# Altium schematic symbol library CL10A106MP8NNNC.SchLib: 1 symbol
Pins are listed as number, name and electrical type; pins without a type are passive.

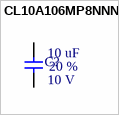
[diagram p0: symbol CL10A106MP8NNNC]

## CL10A106MP8NNNC
designator C?  Capacitence: 10 uF  Tolderance: 20 %  Voltage - Rated: 10 V  (hidden comment: CL10A106MP8NNNC)
CAP CER 10UF 10V X5R 0603; Temperature Coefficient: X5R; Supplier 1: Digi-Key; Supplier Part Number 1: 1276-1871-1-ND; PN: CL10A106MP8NNNC; Package: 0603
footprint C0603 (Generic C0603 Footprint)
pins: 1, 2